# Altium footprint library NINIGI_DC-005.PcbLib: 1 footprints
Each footprint in its own frame and in the unit in brackets; x right, y up, seen from the top. Pads: shape width x height; smd on the part's side, far side on the other; paste and mask are expansions set on the pad; w line width, h text height; cw(c..) or ccw(c..) is an arc to the next point about the centre after c.
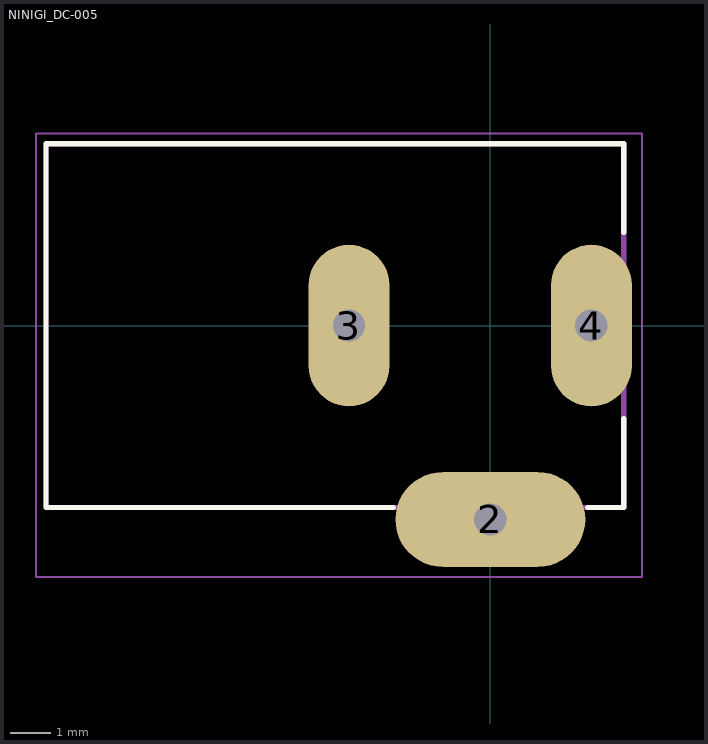
[diagram p0: the footprint, top view; thin cyan lines are the x and y axes]

## NINIGI_DC-005 [mm]
pads (3):
  oval 4.7x2.35 hole 0.8 square: 2(0,-4.8)
  oval 2x4 hole 0.8 square: 3(-3.5,0) 4(2.5,0)
Top Overlay:
  lines w0.127: -2.4,-4.5 -11,-4.5 -11,4.5 3.3,4.5 3.3,2.3 ; 2.4,-4.5 3.3,-4.5 3.3,-2.3
Mechanical 13:
  lines w0.127: -11,-4.5 3.3,-4.5 3.3,4.5 -11,4.5 -11,-4.5
Mechanical 15:
  lines w0.05: -11.25,-6.23 3.75,-6.23 3.75,4.75 -11.25,4.75 -11.25,-6.23